# Altium schematic symbol library WCAP-FTX2.SchLib: 108 symbols (part 3 of 3)
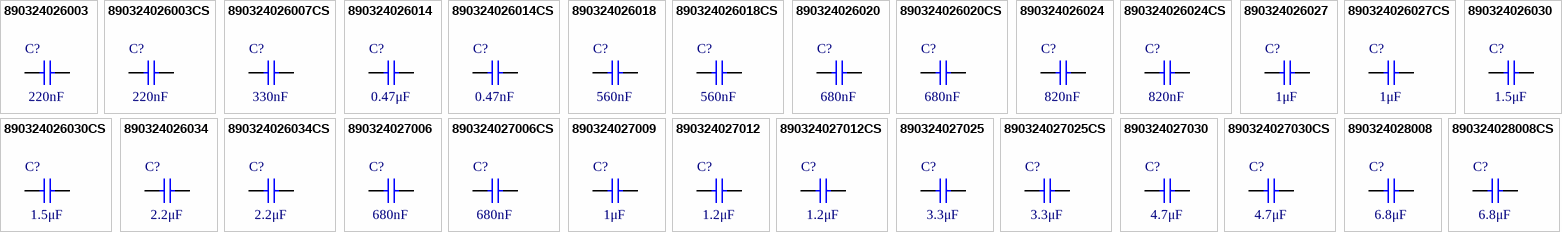
[diagram p4: symbols 890324026003 to 890324028008CS]

## 890324027012
designator C?, comment 1.2μF
WCAP-FTX2 Film Capacitor, THT, L31 x W13 x H22mm, 1.2μF, 275V; Manufacturer Part Number: 890324027012; Manufacturer: Wurth Elektronik; Capacitance Tolerance: +/-10%; Dissipation Factor @1kHz: 0.1%; Dissipation Factor @10kHz: 0.7%; Insulation Resistance: 8.33GΩ; Pitch: 27.5mm; Rate of Voltage Rise: 130V/μs; Technical Reference: MX2P275125K275ASPB56000; Category: Film Capacitors; Match Code: WCAP-FTX2; ComponentLink1Description: Website Link; ComponentLink1URL: https://www.we-online.com/redexpert/article/890324027012?ad; ComponentLink2Description: Datasheet Link; ComponentLink2URL: https://www.we-online.com/redexpert/spec/890324027012?ad; Mount: Through Hole; Min Operating Temperature: -40°C; Max Operating Temperature: 105°C; Packaging: Carton; Length: 31mm; Width: 13mm; Height: 22mm; Capacitance: 1.2μF; Rated Voltage (AC): 275V
footprint WCAP-FTX2_L31W13H22
simulation model 890324027012_1.2uF
pins: 1, 2

## 890324027012CS
designator C?, comment 1.2μF
WCAP-FTX2 Film Capacitor, THT, L31 x W13 x H22mm, 1.2μF, 275V; Manufacturer Part Number: 890324027012CS; Manufacturer: Wurth Elektronik; Capacitance Tolerance: +/-10%; Dissipation Factor @1kHz: 0.1%; Dissipation Factor @10kHz: 0.7%; Insulation Resistance: 8.33GΩ; Pitch: 27.5mm; Rate of Voltage Rise: 130V/μs; Technical Reference: MX2P275125K275ACPP36004; Category: Film Capacitors; Match Code: WCAP-FTX2; ComponentLink1Description: Website Link; ComponentLink1URL: https://www.we-online.com/redexpert/article/890324027012CS?ad; ComponentLink2Description: Datasheet Link; ComponentLink2URL: https://www.we-online.com/redexpert/spec/890324027012CS?ad; Mount: Through Hole; Min Operating Temperature: -40°C; Max Operating Temperature: 105°C; Packaging: Carton; Length: 31mm; Width: 13mm; Height: 22mm; Capacitance: 1.2μF; Rated Voltage (AC): 275V
footprint WCAP-FTX2_L31W13H22
simulation model 890324027012CS_1.2uF
pins: 1, 2

## 890324027025
designator C?, comment 3.3μF
WCAP-FTX2 Film Capacitor, THT, L31 x W15.5 x H29mm, 3.3μF, 275V; Manufacturer Part Number: 890324027025; Manufacturer: Wurth Elektronik; Capacitance Tolerance: +/-10%; Dissipation Factor @1kHz: 0.1%; Dissipation Factor @10kHz: 0.7%; Insulation Resistance: 3.03GΩ; Pitch: 27.5mm; Rate of Voltage Rise: 130V/μs; Technical Reference: MX2P275335K275ASPB55000; Category: Film Capacitors; Match Code: WCAP-FTX2; ComponentLink1Description: Website Link; ComponentLink1URL: https://www.we-online.com/redexpert/article/890324027025?ad; ComponentLink2Description: Datasheet Link; ComponentLink2URL: https://www.we-online.com/redexpert/spec/890324027025?ad; Mount: Through Hole; Min Operating Temperature: -40°C; Max Operating Temperature: 105°C; Packaging: Carton; Length: 31mm; Width: 15.5mm; Height: 29mm; Capacitance: 3.3μF; Rated Voltage (AC): 275V
footprint WCAP-FTX2_L31W15.5H29
simulation model 890324027025_3.3uF
pins: 1, 2

## 890324027025CS
designator C?, comment 3.3μF
WCAP-FTX2 Film Capacitor, THT, L31 x W15.5 x H29mm, 3.3μF, 275V; Manufacturer Part Number: 890324027025CS; Manufacturer: Wurth Elektronik; Capacitance Tolerance: +/-10%; Dissipation Factor @1kHz: 0.1%; Dissipation Factor @10kHz: 0.7%; Insulation Resistance: 3.03GΩ; Pitch: 27.5mm; Rate of Voltage Rise: 130V/μs; Technical Reference: MX2P275335K275ACPP25004; Category: Film Capacitors; Match Code: WCAP-FTX2; ComponentLink1Description: Website Link; ComponentLink1URL: https://www.we-online.com/redexpert/article/890324027025CS?ad; ComponentLink2Description: Datasheet Link; ComponentLink2URL: https://www.we-online.com/redexpert/spec/890324027025CS?ad; Mount: Through Hole; Min Operating Temperature: -40°C; Max Operating Temperature: 105°C; Packaging: Carton; Length: 31mm; Width: 15.5mm; Height: 29mm; Capacitance: 3.3μF; Rated Voltage (AC): 275V
footprint WCAP-FTX2_L31W15.5H29
simulation model 890324027025CS_3.3uF
pins: 1, 2

## 890324027030
designator C?, comment 4.7μF
WCAP-FTX2 Film Capacitor, THT, L31 x W19 x H32.5mm, 4.7μF, 275V; Manufacturer Part Number: 890324027030; Manufacturer: Wurth Elektronik; Capacitance Tolerance: +/-10%; Dissipation Factor @1kHz: 0.1%; Dissipation Factor @10kHz: 0.7%; Insulation Resistance: 2.13GΩ; Pitch: 27.5mm; Rate of Voltage Rise: 140V/μs; Technical Reference: MX2P275475K275ASPB56000; Category: Film Capacitors; Match Code: WCAP-FTX2; ComponentLink1Description: Website Link; ComponentLink1URL: https://www.we-online.com/redexpert/article/890324027030?ad; ComponentLink2Description: Datasheet Link; ComponentLink2URL: https://www.we-online.com/redexpert/spec/890324027030?ad; Mount: Through Hole; Min Operating Temperature: -40°C; Max Operating Temperature: 105°C; Packaging: Carton; Length: 31mm; Width: 19mm; Height: 32.5mm; Capacitance: 4.7μF; Rated Voltage (AC): 275V
footprint WCAP-FTX2_L31W19H32.5
pins: 1, 2

## 890324027030CS
designator C?, comment 4.7μF
WCAP-FTX2 Film Capacitor, THT, L31 x W19 x H32.5mm, 4.7μF, 275V; Manufacturer Part Number: 890324027030CS; Manufacturer: Wurth Elektronik; Capacitance Tolerance: +/-10%; Dissipation Factor @1kHz: 0.1%; Dissipation Factor @10kHz: 0.7%; Insulation Resistance: 2.13GΩ; Pitch: 27.5mm; Rate of Voltage Rise: 140V/μs; Technical Reference: MX2P275475K275ACPP26004; Category: Film Capacitors; Match Code: WCAP-FTX2; ComponentLink1Description: Website Link; ComponentLink1URL: https://www.we-online.com/redexpert/article/890324027030CS?ad; ComponentLink2Description: Datasheet Link; ComponentLink2URL: https://www.we-online.com/redexpert/spec/890324027030CS?ad; Mount: Through Hole; Min Operating Temperature: -40°C; Max Operating Temperature: 105°C; Packaging: Carton; Length: 31mm; Width: 19mm; Height: 32.5mm; Capacitance: 4.7μF; Rated Voltage (AC): 275V
footprint WCAP-FTX2_L31W19H32.5
simulation model 890324027030CS_4.7uF
pins: 1, 2

## 890324028008
designator C?, comment 6.8μF
WCAP-FTX2 Film Capacitor, THT, L41.5 x W22.5 x H35.5mm, 6.8μF, 275V; Manufacturer Part Number: 890324028008; Manufacturer: Wurth Elektronik; Capacitance Tolerance: +/-10%; Dissipation Factor @1kHz: 0.1%; Dissipation Factor @10kHz: 0.7%; Insulation Resistance: 10000Ω x F; Pitch: 37.5mm; Rate of Voltage Rise: 110V/μs; Technical Reference: MX2P375685K275ASPB65000; Category: Film Capacitors; Match Code: WCAP-FTX2; ComponentLink1Description: Website Link; ComponentLink1URL: https://www.we-online.com/redexpert/article/890324028008?ad; ComponentLink2Description: Datasheet Link; ComponentLink2URL: https://www.we-online.com/redexpert/spec/890324028008?ad; Mount: Through Hole; Min Operating Temperature: -40°C; Max Operating Temperature: 105°C; Packaging: Carton; Length: 41.5mm; Width: 22.5mm; Height: 35.5mm; Capacitance: 6.8μF; Rated Voltage (AC): 275V
footprint WCAP-FTX2_L41.5W22.5H35.5
simulation model 890324028008_6.8uF
pins: 1, 2

## 890324028008CS
designator C?, comment 6.8μF
WCAP-FTX2 Film Capacitor, THT, L41.5 x W22.5 x H35.5mm, 6.8μF, 275V; Manufacturer Part Number: 890324028008CS; Manufacturer: Wurth Elektronik; Capacitance Tolerance: +/-10%; Dissipation Factor @1kHz: 0.1%; Dissipation Factor @10kHz: 0.7%; Insulation Resistance: 10000Ω x F; Pitch: 37.5mm; Rate of Voltage Rise: 110V/μs; Technical Reference: MX2P375685K275ACPP25004; Category: Film Capacitors; Match Code: WCAP-FTX2; ComponentLink1Description: Website Link; ComponentLink1URL: https://www.we-online.com/redexpert/article/890324028008CS?ad; ComponentLink2Description: Datasheet Link; ComponentLink2URL: https://www.we-online.com/redexpert/spec/890324028008CS?ad; Mount: Through Hole; Min Operating Temperature: -40°C; Max Operating Temperature: 105°C; Packaging: Carton; Length: 41.5mm; Width: 22.5mm; Height: 35.5mm; Capacitance: 6.8μF; Rated Voltage (AC): 275V
footprint WCAP-FTX2_L41.5W22.5H35.5
simulation model 890324028008CS_6.8uF
pins: 1, 2